# Altium schematic symbol library Schlib1.SchLib: 4 symbols
Pins are listed as number, name and electrical type; pins without a type are passive.

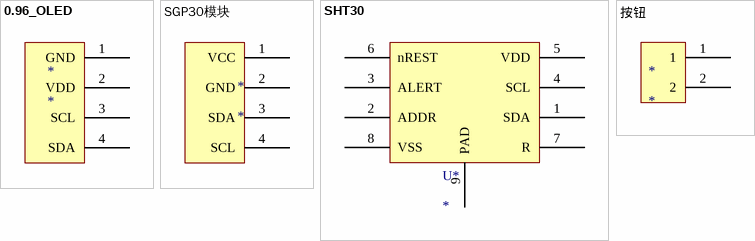
[diagram p0: symbols 0.96_OLED to 按钮]

## 0.96_OLED
designator *
pins: 1 GND, 2 VDD, 3 SCL, 4 SDA

## SGP30模块
designator *
pins: 1 VCC, 2 GND, 3 SDA, 4 SCL

## SHT30
designator U*
pins: 1 SDA, 2 ADDR, 3 ALERT, 4 SCL, 5 VDD, 6 nREST, 7 R, 8 VSS, 9 PAD

## 按钮
designator *
pins: 1, 2